# Altium integrated library NSC Analog Multiplier Divider.IntLib: 2 symbols
Pins are listed as number, name and electrical type; pins without a type are passive.

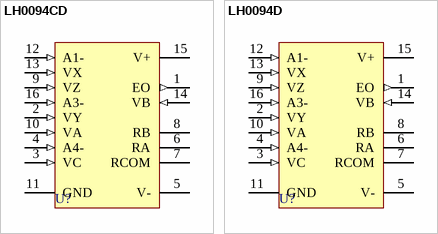
[diagram p0: symbols LH0094CD to LH0094D]

## LH0094CD
designator U?
Multifunction Converter; ComponentAvailability: Obsolete; Published: 15-Apr-2002; DatasheetVersion: Feb-1995; PackageVersion: Feb-1995; PackageReference: D16D; Publisher: Altium Limited; PackageDescription: DIP; 16 Round Pins; Row Space 7.62 mm; Pitch 2.54 mm; ComponentLink1Description: Manufacturer Link; ComponentLink1URL: http://www.national.com/; ComponentLink2Description: Discontinuation Notice; ComponentLink2URL: http://www.national.com/obs/obsolescence.txt
footprint D16D (DIP; 16 Round Pins; Row Space 7.62 mm; Pitch 2.54 mm)
pins: 1 EO (out), 2 VY (in), 3 VC (in), 4 A4- (in), 5 V- (power), 6 RA, 7 RCOM, 8 RB, 9 VZ (in), 10 VA (in), 11 GND (power), 12 A1- (in), 13 VX (in), 14 VB (in), 15 V+ (power), 16 A3- (in)

## LH0094D
designator U?
Multifunction Converter; Published: 15-Apr-2002; DatasheetVersion: 1989; PackageVersion: Feb-1995; PackageReference: D16D; Publisher: Altium Limited; PackageDescription: DIP; 16 Round Pins; Row Space 7.62 mm; Pitch 2.54 mm; ComponentLink1Description: Manufacturer Link; ComponentLink1URL: http://www.national.com/
footprint D16D (DIP; 16 Round Pins; Row Space 7.62 mm; Pitch 2.54 mm)
pins: 1 EO (out), 2 VY (in), 3 VC (in), 4 A4- (in), 5 V- (power), 6 RA, 7 RCOM, 8 RB, 9 VZ (in), 10 VA (in), 11 GND (power), 12 A1- (in), 13 VX (in), 14 VB (in), 15 V+ (power), 16 A3- (in)